# Altium schematic symbol library SOT-89 B772 160-320.Schlib: 1 symbol
Pins are listed as number, name and electrical type; pins without a type are passive.

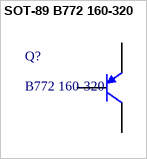
[diagram p0: symbol SOT-89 B772 160-320]

## SOT-89 B772 160-320
designator Q?, comment B772 160-320
三极管
footprint SOT-89(SOT-89-3)
pins: 1 B, 2 C, 3 E